# Altium integrated library BagherKharrazi.IntLib: 8 symbols
Pins are listed as number, name and electrical type; pins without a type are passive.

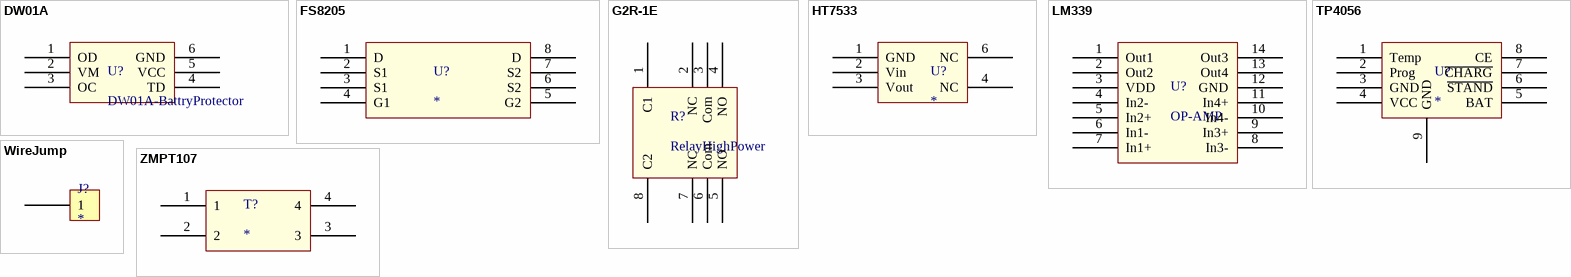
[diagram p0: symbols DW01A to ZMPT107]

## DW01A
designator U?, comment DW01A-BattryProtector
footprint SOT23-6
pins: 1 OD, 2 VM, 3 OC, 4 TD, 5 VCC, 6 GND

## FS8205
designator U?
footprint TSSOP8
pins: 1 D, 2 S1, 3 S1, 4 G1, 5 G2, 6 S2, 7 S2, 8 D

## G2R-1E
designator R?, comment RelayHighPower
footprint G2R-1E
pins: 1 C1, 2 NC, 3 Com, 4 NO, 5 NO, 6 Com, 7 NC, 8 C2

## HT7533
designator U?
footprint SOT23-5
pins: 1 GND, 2 Vin, 3 Vout, 4 NC, 6 NC

## LM339
designator U?, comment OP-AMP
footprint SOIC-14
pins: 1 Out1, 2 Out2, 3 VDD, 4 In2-, 5 In2+, 6 In1-, 7 In1+, 8 In3-, 9 In3+, 10 In4-, 11 In4+, 12 GND, 13 Out4, 14 Out3

## TP4056
designator U?
footprint SOP-8
pins: 1 Temp, 2 Prog, 3 GND, 4 VCC, 5 BAT, 6 ~{STAND}, 7 ~{CHARG}, 8 CE, 9 GND

## WireJump
designator J?
footprint Wire
pins: 1

## ZMPT107
designator T?
footprint ZMPT107
pins: 1, 2, 3, 4